# Altium footprint library SI7772DP-T1-GE3.PcbLib: 1 footprints
Each footprint in its own frame and in the unit in brackets; x right, y up, seen from the top. Pads: shape width x height; smd on the part's side, far side on the other; paste and mask are expansions set on the pad; w line width, h text height; cw(c..) or ccw(c..) is an arc to the next point about the centre after c.
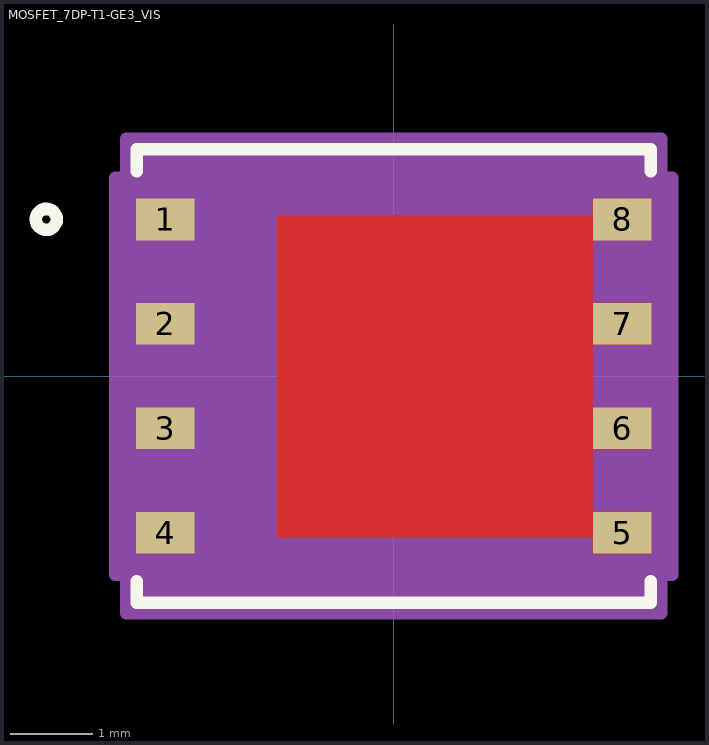
[diagram p0: the footprint, top view; thin cyan lines are the x and y axes]

## MOSFET_7DP-T1-GE3_VIS [mil]
pads (8):
  rect 28x20 smd paste-10 mask+0: 1(-109.25,75) 2(-109.25,25) 3(-109.25,-25) 4(-109.25,-75) 5(109.25,-75) 6(109.25,-25) 7(109.25,25) 8(109.25,75)
Top Layer:
  region: 0,77
  region: 0,-77
  region: 95.25,77 -55.75,77 -55.75,-77 95.25,-77 95.25,-85 123.25,-85 123.25,-65 95.25,-65 95.25,-35 123.25,-35 123.25,-15 95.25,-15 95.25,15 123.25,15 123.25,35 95.25,35 95.25,65 123.25,65 123.25,85 95.25,85
Top Overlay:
  circle w6: c-166.25,75 r5
  lines w6: -123,-98.1 -123,-108.5 123,-108.5 123,-98.1 ; -123,98.1 -123,108.5 123,108.5 123,98.1
Top Paste:
  region: -29.1,73.06 -71.56,73.06 -71.56,29.6 -29.1,29.6
  region: -29.1,21.73 -71.56,21.73 -71.56,-21.73 -29.1,-21.73
  region: -29.1,-29.6 -71.56,-29.6 -71.56,-73.06 -29.1,-73.06
  region: 21.23,73.06 -21.23,73.06 -21.23,29.6 21.23,29.6
  region: 21.23,21.73 -21.23,21.73 -21.23,-21.73 21.23,-21.73
  region: 21.23,-29.6 -21.23,-29.6 -21.23,-73.06 21.23,-73.06
  region: 71.56,73.06 29.1,73.06 29.1,29.6 71.56,29.6
  region: 71.56,21.73 29.1,21.73 29.1,-21.73 71.56,-21.73
  region: 71.56,-29.6 29.1,-29.6 29.1,-73.06 71.56,-73.06
  region: 95.25,77 -55.75,77 -55.75,-77 95.25,-77 95.25,-85 123.25,-85 123.25,-65 95.25,-65 95.25,-35 123.25,-35 123.25,-15 95.25,-15 95.25,15 123.25,15 123.25,35 95.25,35 95.25,65 123.25,65 123.25,85 95.25,85
Top Solder:
  region: 0,77
  region: 0,-77
  region: 95.25,77 -55.75,77 -55.75,-77 95.25,-77 95.25,-85 123.25,-85 123.25,-65 95.25,-65 95.25,-35 123.25,-35 123.25,-15 95.25,-15 95.25,15 123.25,15 123.25,35 95.25,35 95.25,65 123.25,65 123.25,85 95.25,85
Mechanical 13:
  circle w0: c-95.25,75 r3
  lines w0: -12,103.5 ccw(c0,103.5) 12,103.5
  lines w1: -118,-103.5 118,-103.5 118,103.5 -118,103.5 -118,-103.5
Mechanical 15:
  region: -128,-95 -133.25,-95 -133.25,95 -128,95 -128,113.5 128,113.5 128,95 133.25,95 133.25,-95 128,-95 128,-113.5 -128,-113.5
  lines w6: -133.25,-95 -133.25,95 -128,95 -128,113.5 128,113.5 128,95 133.25,95 133.25,-95 128,-95 128,-113.5 -128,-113.5 -128,-95 -133.25,-95
3D body "SI7772DP-T1-GE3.STEP": height 44, standoff 0, extent -121,-101.5 121,101.5